# Altium schematic symbol library SELibrary_INTEGRATION.SchLib: 6 symbols
Pins are listed as number, name and electrical type; pins without a type are passive.

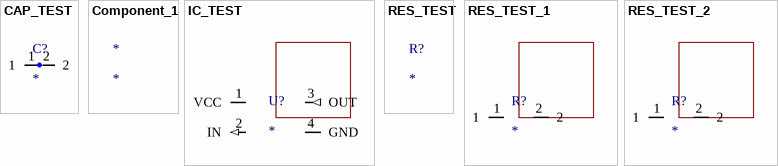
[diagram p0: symbols CAP_TEST to RES_TEST_2]

## CAP_TEST
designator C?
Test fixture capacitor
pins: 1, 2

## Component_1
designator *

## IC_TEST
designator U?
Test fixture 4-pin IC
pins: 1 VCC (power), 2 IN (in), 3 OUT (out), 4 GND (power)

## RES_TEST
designator R?
Test fixture resistor

## RES_TEST_1
designator R?
Test fixture resistor
pins: 1, 2

## RES_TEST_2
designator R?
Test fixture resistor
pins: 1, 2